# EAGLE library part STEPSTICK_TMC (library stepstick)
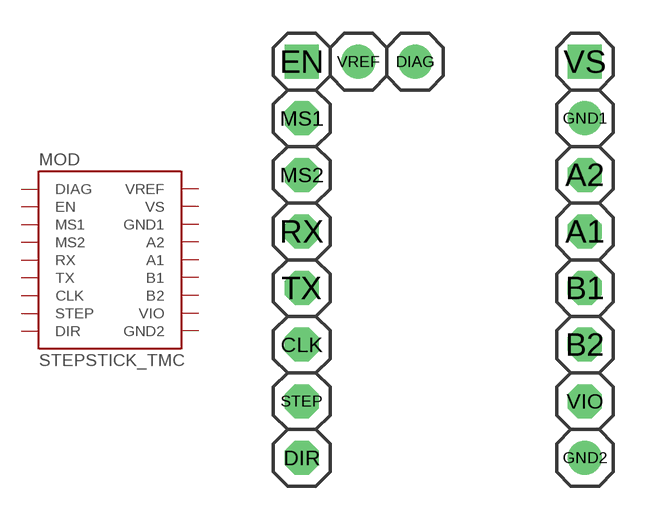
[diagram p1: symbol with the pads of STEPSTICK_TMC; footprint STEPSTICK_TMC]

Designator prefix MOD

## STEPSTICK_TMC  [STEPSTICK_TMC]
A1  A1
A2  A2
B1  B1
B2  B2
CLK  CLK
DIAG  DIAG
DIR  DIR
EN  EN
GND1  GND1
GND2  GND2
MS1  MS1
MS2  MS2
RX  RX
STEP  STEP
TX  TX
VIO  VIO
VREF  VREF
VS  VS

## Footprint STEPSTICK_TMC (pad centres in mm)
TMCxxxx stepstick
drill 1.016 octagon: A1 6.35,1.27; A2 6.35,3.81; B1 6.35,-1.27; B2 6.35,-3.81; CLK -6.35,-3.81; DIR -6.35,-8.89; MS1 -6.35,6.35; MS2 -6.35,3.81; RX -6.35,1.27; STEP -6.35,-6.35; TX -6.35,-1.27; VIO 6.35,-6.35
drill 1.016: DIAG -1.27,8.89; GND1 6.35,6.35; GND2 6.35,-8.89; VREF -3.81,8.89
drill 1.016 square: EN -6.35,8.89; VS 6.35,8.89